# Altium footprint library PCB_OBDH_ALT.PcbLib: 23 footprints (part 2 of 2)
Each footprint in its own frame and in the unit in brackets; x right, y up, seen from the top. Pads: shape width x height; smd on the part's side, far side on the other; paste and mask are expansions set on the pad; w line width, h text height; cw(c..) or ccw(c..) is an arc to the next point about the centre after c.
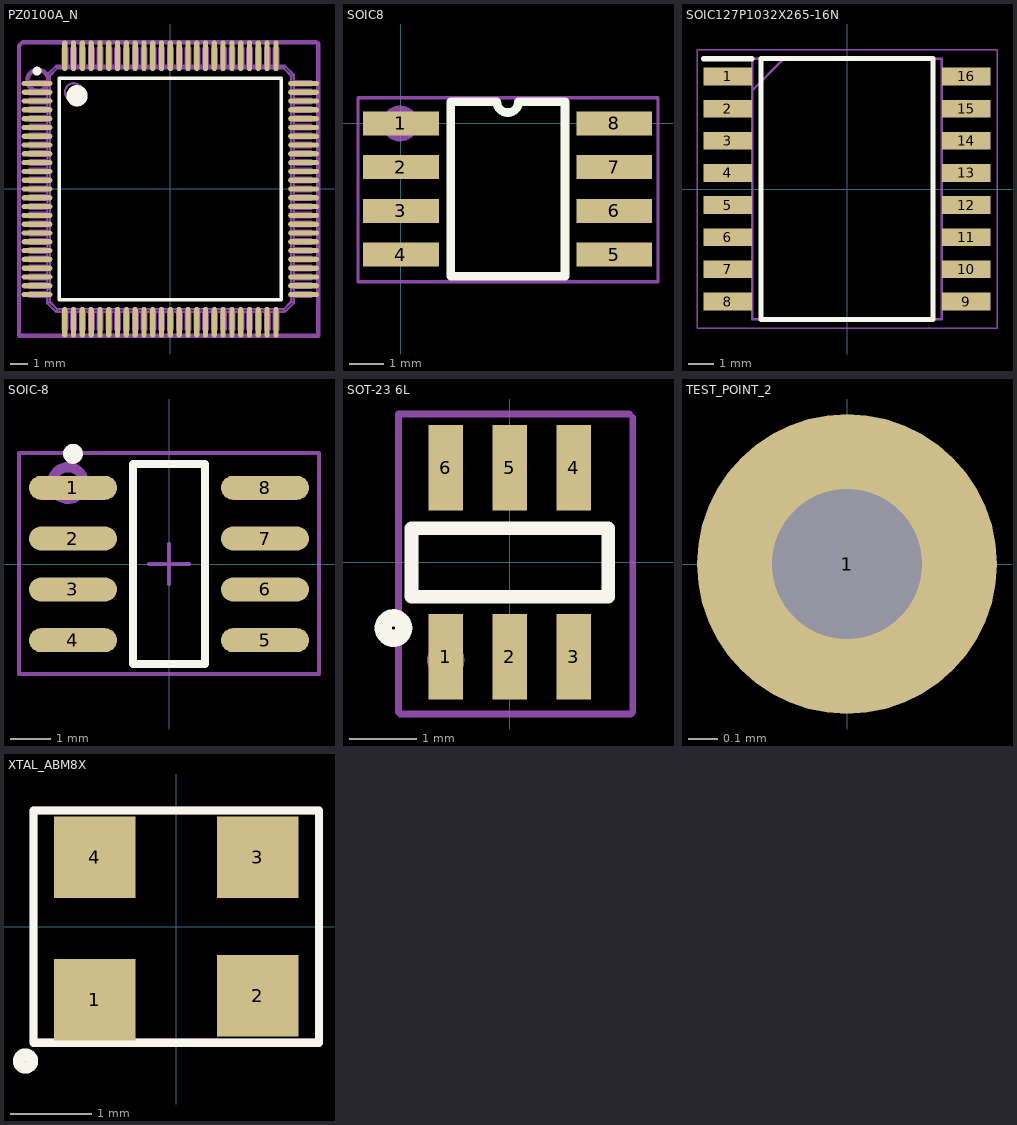
[diagram p1: the footprints below, top view; thin cyan lines are the x and y axes]

## PZ0100A_N [mm]
height 3.1
pads (100):
  oval 1.75x0.3 smd paste-0.102 mask+0.051: 1(-7.575,6) 2(-7.575,5.5) 3(-7.575,5) 4(-7.575,4.5) 5(-7.575,4) 6(-7.575,3.5) 7(-7.575,3) 8(-7.575,2.5) 9(-7.575,2) 10(-7.575,1.5) 11(-7.575,1) 12(-7.575,0.5) 13(-7.575,0) 14(-7.575,-0.5) 15(-7.575,-1) 16(-7.575,-1.5) 17(-7.575,-2) 18(-7.575,-2.5) 19(-7.575,-3) 20(-7.575,-3.5) 21(-7.575,-4) 22(-7.575,-4.5) 23(-7.575,-5) 24(-7.575,-5.5) 25(-7.575,-6) 51(7.575,-6) 52(7.575,-5.5) 53(7.575,-5) 54(7.575,-4.5) 55(7.575,-4) 56(7.575,-3.5) 57(7.575,-3) 58(7.575,-2.5) 59(7.575,-2) 60(7.575,-1.5) 61(7.575,-1) 62(7.575,-0.5) 63(7.575,0) 64(7.575,0.5) 65(7.575,1) 66(7.575,1.5) 67(7.575,2) 68(7.575,2.5) 69(7.575,3) 70(7.575,3.5) 71(7.575,4) 72(7.575,4.5) 73(7.575,5) 74(7.575,5.5) 75(7.575,6)
  oval 0.3x1.75 smd paste-0.102 mask+0.051: 26(-6,-7.575) 27(-5.5,-7.575) 28(-5,-7.575) 29(-4.5,-7.575) 30(-4,-7.575) 31(-3.5,-7.575) 32(-3,-7.575) 33(-2.5,-7.575) 34(-2,-7.575) 35(-1.5,-7.575) 36(-1,-7.575) 37(-0.5,-7.575) 38(0,-7.575) 39(0.5,-7.575) 40(1,-7.575) 41(1.5,-7.575) 42(2,-7.575) 43(2.5,-7.575) 44(3,-7.575) 45(3.5,-7.575) 46(4,-7.575) 47(4.5,-7.575) 48(5,-7.575) 49(5.5,-7.575) 50(6,-7.575) 76(6,7.575) 77(5.5,7.575) 78(5,7.575) 79(4.5,7.575) 80(4,7.575) 81(3.5,7.575) 82(3,7.575) 83(2.5,7.575) 84(2,7.575) 85(1.5,7.575) 86(1,7.575) 87(0.5,7.575) 88(0,7.575) 89(-0.5,7.575) 90(-1,7.575) 91(-1.5,7.575) 92(-2,7.575) 93(-2.5,7.575) 94(-3,7.575) 95(-3.5,7.575) 96(-4,7.575) 97(-4.5,7.575) 98(-5,7.575) 99(-5.5,7.575) 100(-6,7.575)
Top Overlay:
  circle w0.6: c-5.3,5.3 r0.3
  circle w0.25: c-7.575,6.7 r0.125
  lines w0.2: -6.3,-6.3 6.3,-6.3 6.3,6.3 -6.3,6.3 -6.3,-6.3
Mechanical 1:
  drawing of 1326 lines, arcs and shapes, not listed
Mechanical 13:
  text ".Designator" at -6.275,1.125 h1.27
Mechanical 15:
  circle w0.254: c-7.525,6.175 r0.596
  lines w0.254: -8.6,-8.35 8.4,-8.35 8.4,8.25 8.3,8.35 -8.4,8.35 -8.6,8.15 -8.6,-8.35
  text ".Designator" at -3.26,4.646 h1
3D body "User Library-LQFP100-3.STEP": height 1.62, standoff -0.01, extent -8.097,-8.097 8.047,8.047

## SOIC8 [mm]
height 3.1
pads (8):
  rect 2.2x0.7 smd: 1(0,0) 2(0,-1.27) 3(0,-2.54) 4(0,-3.81) 5(6.205,-3.81) 6(6.205,-2.54) 7(6.205,-1.27) 8(6.205,0)
Top Overlay:
  lines w0.254: 1.449,-4.445 4.768,-4.445 4.768,0.635 3.42,0.635 cw(c3.103,0.635) 2.785,0.635 1.449,0.635 1.449,-4.445
Mechanical 15:
  circle w0.254: c-0.025,0 r0.395
  lines w0.1: -1.25,-4.6 7.475,-4.6 7.475,0.75 -1.25,0.75 -1.25,-4.6
  text ".Designator" at 0.025,-2.325 h0.5
3D body "User Library-SOIC-8 - TEK.step": height 1.7, standoff -0.05, extent 0.103,-4.4 6.103,0.6

## SOIC127P1032X265-16N [mm]
pads (16):
  rect 1.925x0.7 smd: 1(-4.712,4.445) 2(-4.712,3.175) 3(-4.712,1.905) 4(-4.712,0.635) 5(-4.712,-0.635) 6(-4.712,-1.905) 7(-4.712,-3.175) 8(-4.712,-4.445) 9(4.712,-4.445) 10(4.712,-3.175) 11(4.712,-1.905) 12(4.712,-0.635) 13(4.712,0.635) 14(4.712,1.905) 15(4.712,3.175) 16(4.712,4.445)
Top Overlay:
  lines w0.2: -5.675,5.145 -3.75,5.145 ; -3.4,-5.15 -3.4,5.15 3.4,5.15 3.4,-5.15 -3.4,-5.15
Mechanical 15:
  lines w0.1: -3.75,3.88 -2.48,5.15 ; -3.75,-5.15 -3.75,5.15 3.75,5.15 3.75,-5.15 -3.75,-5.15
Mechanical 20:
  lines w0.05: -5.925,-5.5 -5.925,5.5 5.925,5.5 5.925,-5.5 -5.925,-5.5
3D body: height 0.25, standoff 0, extent 0,0 0,0
3D body "MT25QL01GBBB8ESF-0SIT.stp": height 2.65, standoff 0, extent -5.226,-5.213 5.099,5.087

## SOIC-8 [mm] "SOIC, 8-Leads, Body 4,89x3,90mm, Pitch 1,27mm, IPC Medium Density"
height 1.75
pads (8):
  oval 2.2x0.6 smd: 1(-2.4,1.905) 2(-2.4,0.635) 3(-2.4,-0.635) 4(-2.4,-1.905) 5(2.4,-1.905) 6(2.4,-0.635) 7(2.4,0.635) 8(2.4,1.905)
Top Overlay:
  circle w0.25: c-2.4,2.755 r0.125
  lines w0.2: -0.9,-2.5 -0.9,2.5 0.9,2.5 0.9,-2.5 -0.9,-2.5
Mechanical 15:
  circle w0.254: c-2.525,2.025 r0.395
  lines w0.05: -3.75,-2.75 -3.75,2.75 3.75,2.75 3.75,-2.75 -3.75,-2.75
  lines w0.1: -0.5,0 0.5,0 ; 0,-0.5 0,0.5 ; -3.75,-2.75 3.75,-2.75 3.75,2.775 -3.75,2.775 -3.75,-2.75
  text ".Designator" at -2.475,-0.3 h0.5
3D body "SOIC-8-1.STEP": height 1.75, standoff 0, extent -3,-2.45 3,2.45

## SOT-23 6L [mm]
pads (6):
  rect 0.508x1.27 smd: 1(-0.95,-1.4) 2(0,-1.4) 3(0.95,-1.4) 4(0.95,1.4) 5(0,1.4) 6(-0.95,1.4)
Top Overlay:
  circle w0.254: c-1.725,-0.975 r0.152
  lines w0.203: -1.458,-0.511 -1.458,0.505 1.463,0.505 1.463,-0.511 -1.458,-0.511
Mechanical 15:
  circle w0.254: c-0.95,-1.45 r0.15
  lines w0.1: -1.65,-2.225 -1.65,2.2 1.775,2.2 ; -1.625,-2.25 1.8,-2.25 ; 1.825,-2.225 1.825,2.15
  text ".Designator" at 0.175,-1.925 h0.5
3D body "SOT-23-6-3.STEP": height 0.86, standoff 0, extent -1.5,-1.405 1.5,1.405

## TEST_POINT_2 [mil]
height 122.05
pads (1):
  round 40 hole 20: 1(0,0)

## XTAL_ABM8X [mm]
height 3.1
pads (4):
  rect 1x1 smd: 1(-1,-0.9) 2(1,-0.85) 3(1,0.85) 4(-1,0.85)
Top Overlay:
  circle w0.15: c-1.85,-1.65 r0.08
  lines w0.1: -1.75,-1.425 -1.75,1.425 1.75,1.425 1.75,-1.425 -1.75,-1.425
Mechanical 15:
  circle w0.254: c-0.925,-0.85 r0.292
  lines w0.1: -1.75,-1.425 1.75,-1.425 1.75,1.425 -1.75,1.425 -1.75,-1.425
  text ".Designator" at -1.075,-0.05 h0.5
3D body "ABM8X.STEP": height 0.6, standoff 0, extent -1.6,-1.225 1.6,1.275